# EAGLE library part MC8 (library con-phoenix-381)
Mini-Combicon 3.81mm horizontal 8-polig MC 1,5/8-G-3,81 Artikel-Nr. 1803332
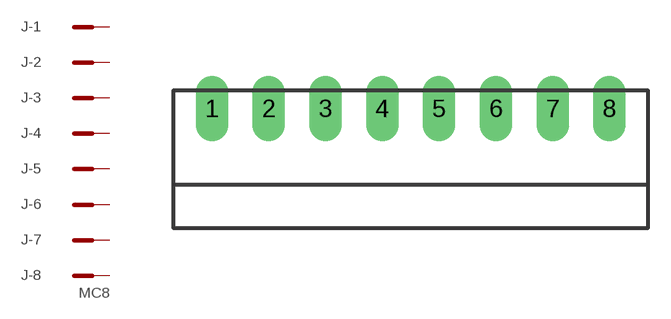
[diagram p10: symbol with the pads of MC8; footprint MC8]

Designator prefix J; gates -1=MCST -2=MCST -3=MCST -4=MCST -5=MCST -6=MCST -7=MCST -8=MCST+V

## MC8  [MC8]
1  -1:SK  pas
2  -2:SK  pas
3  -3:SK  pas
4  -4:SK  pas
5  -5:SK  pas
6  -6:SK  pas
7  -7:SK  pas
8  -8:SK  pas

## Footprint MC8 (pad centres in mm)
Mini-Combicon 3.81mm horizontal 8-polig MC 1,5/8-G-3,81 Artikel-Nr. 1803332
drill 1.27 pad 2.184 long: 1 -13.335,0; 2 -9.525,0; 3 -5.715,0; 4 -1.905,0; 5 1.905,0; 6 5.715,0; 7 9.525,0; 8 13.335,0